# EAGLE library part PRO_TRINKET (library tobias)
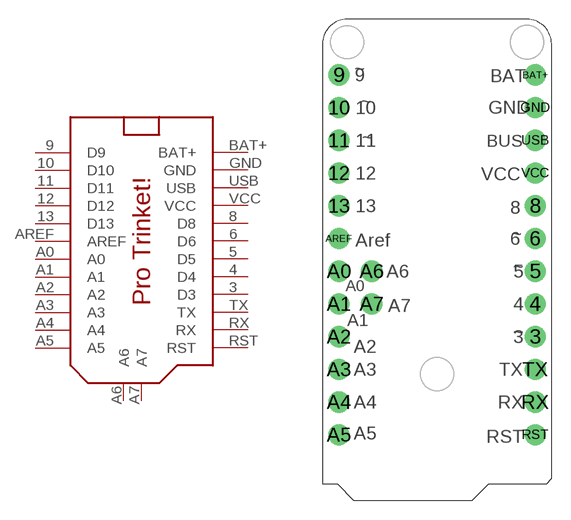
[diagram p4: symbol with the pads of PROTRINKET; footprint PROTRINKET]

Designator prefix -

## PRO_TRINKET  [PROTRINKET]
3  D3
4  D4
5  D5
6  D6
8  D8
9  D9
10  D10
11  D11
12  D12
13  D13
A0  A0
A1  A1
A2  A2
A3  A3
A4  A4
A5  A5
A6  A6  pas
A7  A7  pas
AREF  AREF  pas
BAT+  BAT+  pwr
GND  GND  pwr
RST  RST  pas
RX  RX
TX  TX
USB  USB  pwr
VCC  VCC  pwr

## Footprint PROTRINKET (pad centres in mm)
drill 1.1: 3 7.62,2.541; 4 7.62,5.081; 5 7.62,7.621; 6 7.62,10.161; 8 7.62,12.701; 9 -7.62,22.861; 10 -7.62,20.321; 11 -7.62,17.781; 12 -7.62,15.241; 13 -7.62,12.701; A0 -7.62,7.621; A1 -7.62,5.081; A2 -7.62,2.541; A3 -7.62,0.001; A4 -7.62,-2.539; A5 -7.62,-5.079; A6 -5.08,7.621; A7 -5.08,5.081; AREF -7.62,10.161; BAT+ 7.62,22.861; GND 7.62,20.321; RST 7.62,-5.079; RX 7.62,-2.539; TX 7.62,0.001; USB 7.62,17.781; VCC 7.62,15.241